# Altium footprint library LED_SMD.PcbLib: 82 footprints (part 3 of 6)
Each footprint in its own frame and in the unit in brackets; x right, y up, seen from the top. Pads: shape width x height; smd on the part's side, far side on the other; paste and mask are expansions set on the pad; w line width, h text height; cw(c..) or ccw(c..) is an arc to the next point about the centre after c.
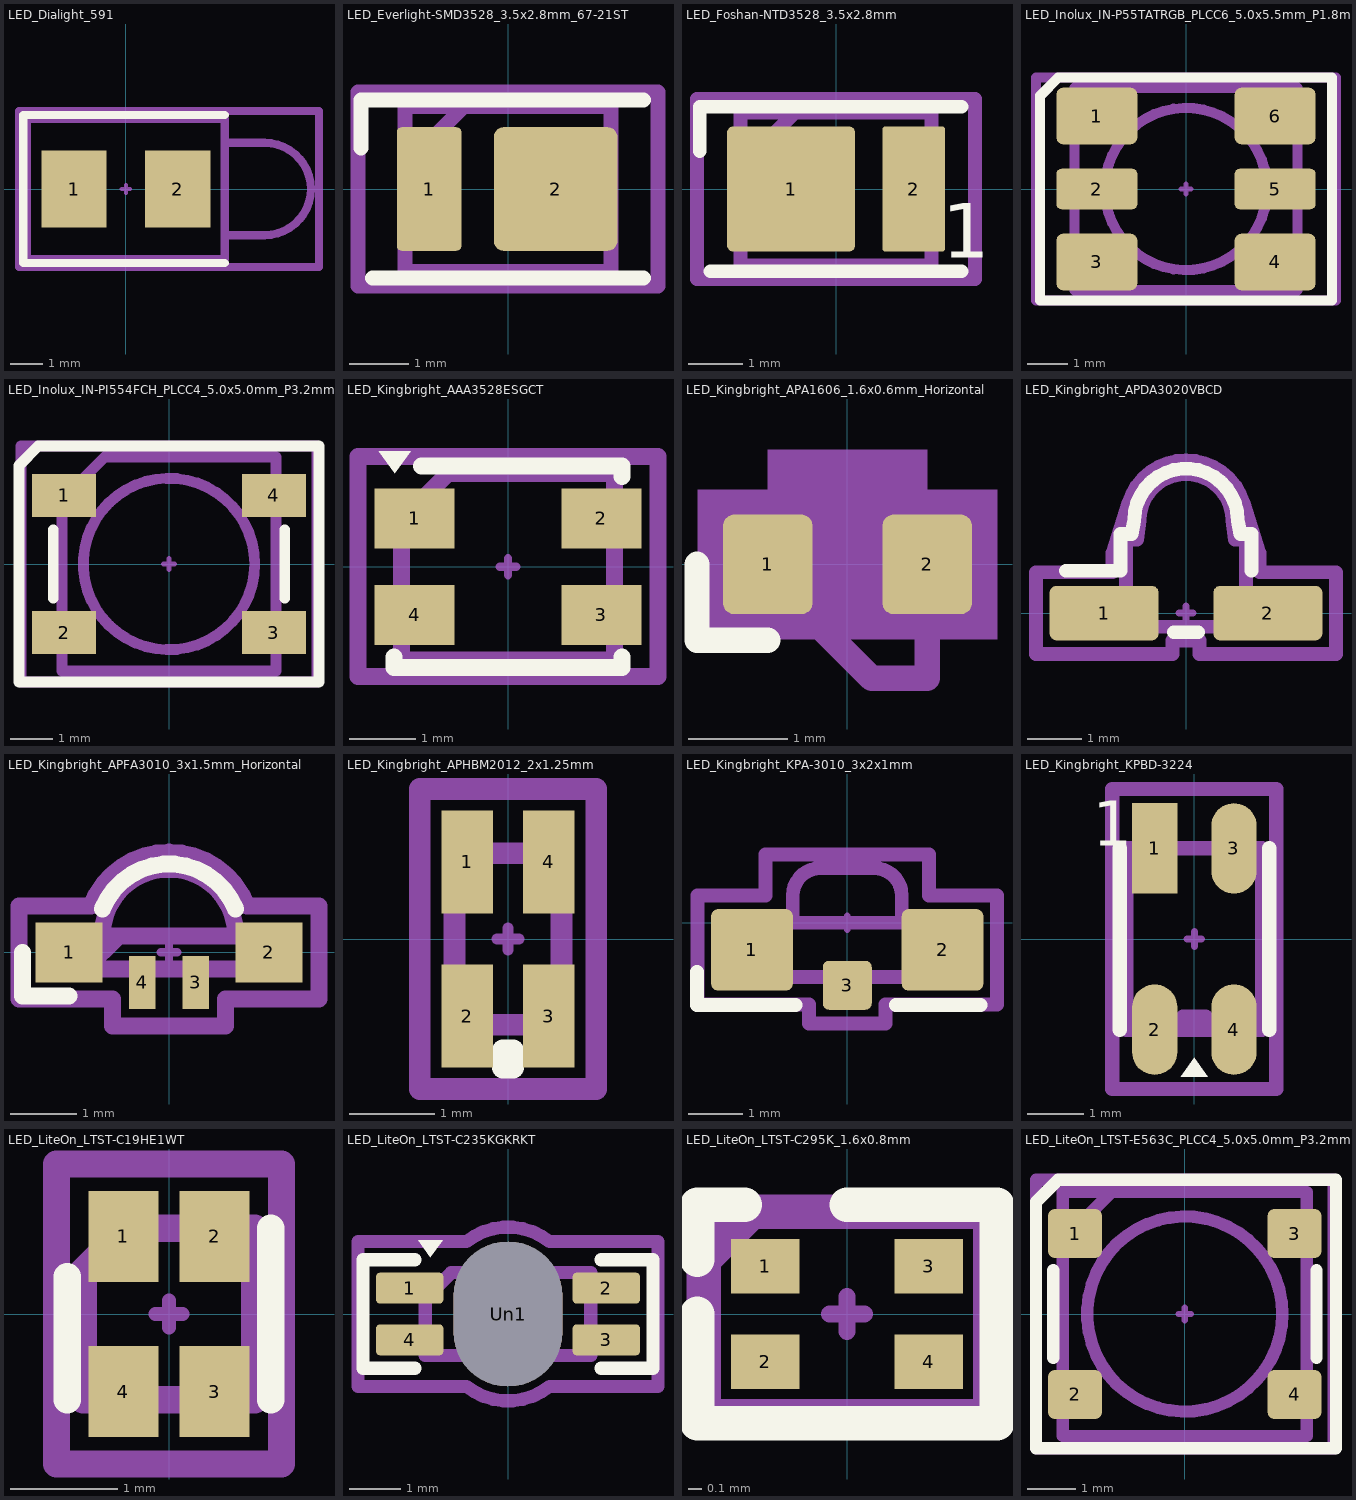
[diagram p2: the footprints below, top view; thin cyan lines are the x and y axes]

## LED_Dialight_591 [mm] "LED_Dialight_591"
pads (2):
  rect 2.01x2.39 smd: 1(-1.6,0) 2(1.6,0)
F.SilkS:
  lines w0.254: 3.05,-2.28 -3.17,-2.28 -3.17,2.28 3.05,2.28
Top Component Center:
  lines w0.127: -0.127,0 0.127,0 ; 0,-0.127 0,0.127
Top Assembly:
  lines w0.254: 3.05,-1.425 4.285,-1.425 ccw(c4.285,0) 4.285,1.425 3.05,1.425 ; -3.05,-2.16 3.05,-2.16 3.05,2.16 -3.05,2.16 -3.05,-2.16
Top Courtyard:
  lines w0.254: -3.3,-2.41 5.96,-2.41 5.96,2.41 -3.3,2.41 -3.3,-2.41
Top Designator:
  text ".Designator" at -3.38,-0.339 h1.5

## LED_Everlight-SMD3528_3.5x2.8mm_67-21ST [mm] "LED_Everlight-SMD3528_3.5x2.8mm_67-21ST"
pads (2):
  rrect15% 1.1x2.1 smd: 1(-1.34,0)
  rrect15% 2.1x2.1 smd: 2(0.81,0)
F.SilkS:
  lines w0.254: -2.5,0.7 -2.5,1.51 2.3,1.51 ; -2.3,-1.51 2.3,-1.51
Top Component Center:
  lines w0.127: -0.127,0 0.127,0 ; 0,-0.127 0,0.127
Top Assembly:
  lines w0.254: -1.75,0.4 -0.75,1.4 ; -1.75,-1.4 -1.75,1.4 1.75,1.4 1.75,-1.4 -1.75,-1.4
Top Courtyard:
  lines w0.254: -2.55,-1.65 -2.55,1.65 2.55,1.65 2.55,-1.65 -2.55,-1.65
Top Designator:
  text ".Designator" at -2.253,-0.226 h1

## LED_Foshan-NTD3528_3.5x2.8mm [mm] "LED_Foshan-NTD3528_3.5x2.8mm"
pads (2):
  rrect10% 2.35x2.3 smd: 1(-0.825,0)
  rrect10% 1.15x2.3 smd: 2(1.425,0)
F.SilkS:
  lines w0.254: -2.5,0.7 -2.5,1.51 2.3,1.51 ; -2.3,-1.51 2.3,-1.51
  text "1" at 1.953,-1.264 h1
Top Component Center:
  lines w0.127: -0.127,0 0.127,0 ; 0,-0.127 0,0.127
Top Assembly:
  lines w0.254: -1.75,0.4 -0.75,1.4 ; -1.75,-1.4 -1.75,1.4 1.75,1.4 1.75,-1.4 -1.75,-1.4
Top Courtyard:
  lines w0.254: -2.55,-1.65 -2.55,1.65 2.55,1.65 2.55,-1.65 -2.55,-1.65
Top Designator:
  text ".Designator" at -2.253,-0.226 h1

## LED_Inolux_IN-P55TATRGB_PLCC6_5.0x5.5mm_P1.8mm [mm] "LED_Inolux_IN-P55TATRGB_PLCC6_5.0x5.5mm_P1.8mm"
pads (6):
  rrect25% 2x1.4 smd: 1(-2.2,1.8) 3(-2.2,-1.8) 4(2.2,-1.8) 6(2.2,1.8)
  rrect25% 2x1 smd: 2(-2.2,0) 5(2.2,0)
F.SilkS:
  lines w0.254: -3.6,-2.75 -3.6,2.3 -3.15,2.75 3.6,2.75 3.6,-2.75 -3.6,-2.75
Top Component Center:
  lines w0.127: -0.127,0 0.127,0 ; 0,-0.127 0,0.127
Top Assembly:
  circle w0.254: c0,0 r2
  lines w0.254: -2.75,1.5 -1.75,2.5 ; -2.75,-2.5 -2.75,2.5 2.75,2.5 2.75,-2.5 -2.75,-2.5
Top Courtyard:
  lines w0.254: -3.7,-2.75 -3.7,2.75 3.7,2.75 3.7,-2.75 -3.7,-2.75
Top Designator:
  text ".Designator" at -3.432,-0.345 h1.52

## LED_Inolux_IN-PI554FCH_PLCC4_5.0x5.0mm_P3.2mm [mm] "LED_Inolux_IN-PI554FCH_PLCC4_5.0x5.0mm_P3.2mm"
pads (4):
  rect 1.5x1 smd: 1(-2.45,1.6) 2(-2.45,-1.6) 3(2.45,-1.6) 4(2.45,1.6)
F.SilkS:
  lines w0.254: -2.7,-0.8 -2.7,0.8 ; 2.7,-0.8 2.7,0.8 ; -3.5,-2.75 3.5,-2.75 3.5,2.75 -3.05,2.75 -3.5,2.3 -3.5,-2.75
Top Component Center:
  lines w0.127: -0.127,0 0.127,0 ; 0,-0.127 0,0.127
Top Assembly:
  circle w0.254: c0,0 r2
  lines w0.254: -2.5,-2.5 2.5,-2.5 2.5,2.5 -1.5,2.5 -2.5,1.5 -2.5,-2.5
Top Courtyard:
  lines w0.254: -3.45,-2.75 3.45,-2.75 3.45,2.75 -3.45,2.75 -3.45,-2.75
Top Designator:
  text ".Designator" at -3.38,-0.339 h1.5
3D body "LED_Inolux_IN-PI554FCH_PLCC4_5.0x5.0mm_P3.2mm.step": height 1.7, standoff 0, extent -2.7,-2.5 2.7,2.5

## LED_Kingbright_AAA3528ESGCT [mm] "LED_Kingbright_AAA3528ESGCT"
pads (4):
  rect 1.2x0.9 smd: 1(-1.4,0.725) 2(1.4,0.725) 3(1.4,-0.725) 4(-1.4,-0.725)
F.SilkS:
  region: -1.7,1.4 -1.94,1.73 -1.46,1.73
  lines w0.254: -1.71,-1.355 -1.71,-1.51 1.71,-1.51 1.71,-1.355 ; -1.3,1.51 1.71,1.51 1.71,1.355
Top Component Center:
  lines w0.127: -0.127,0 0.127,0 ; 0,-0.127 0,0.127
Top Assembly:
  lines w0.254: -1.6,-1.4 1.6,-1.4 1.6,1.4 -0.9,1.4 -1.6,0.7 -1.6,-1.4
Top Courtyard:
  lines w0.254: -2.25,-1.65 2.25,-1.65 2.25,1.65 -2.25,1.65 -2.25,-1.65
Top Designator:
  text ".Designator" at -2.253,-0.226 h1

## LED_Kingbright_APA1606_1.6x0.6mm_Horizontal [mm] "LED_Kingbright_APA1606_1.6x0.6mm_Horizontal"
pads (2):
  rrect25% 0.9x1 smd: 1(-0.8,0) 2(0.8,0)
F.SilkS:
  lines w0.254: -1.51,0 -1.51,-0.76 -0.8,-0.76
Top Component Center:
  lines w0.127: -0.127,0 0.127,0 ; 0,-0.127 0,0.127
Top Assembly:
  lines w0.254: -0.6,0.3 -0.55,0.9 0.55,0.9 0.6,0.3 ; -0.8,-0.1 0.243,-1.143 0.8,-1.143 0.8,0.3 -0.8,0.3 -0.8,-0.1
Top Courtyard:
  region: 0.8,0.75 1.5,0.75 1.5,-0.75 -1.5,-0.75 -1.5,0.75 -0.8,0.75 -0.8,1.15 0.8,1.15
Top Designator:
  text ".Designator" at -1.127,-0.113 h0.5
3D body "LED_Kingbright_APA1606_1.6x0.6mm_Horizontal.step": height 0.6, standoff 0, extent -0.8,-0.3 0.8,0.9
3D body "LED_Kingbright_APA1606_1.6x0.6mm_Horizontal.step": height 0.6, standoff 0, extent -0.8,-0.3 0.8,0.9

## LED_Kingbright_APDA3020VBCD [mm] "LED_Kingbright_APDA3020VBCD"
pads (2):
  rrect25% 2x1 smd: 1(-1.5,0) 2(1.5,0)
F.SilkS:
  lines w0.254: -2.2,0.775 -1.2,0.775 -1.2,1.45 -1,1.45 -0.95,1.7 cw(c0,1.7) 0.95,1.7 1,1.45 1.2,1.45 1.2,0.775 ; -0.225,-0.35 0.225,-0.35
Top Component Center:
  lines w0.127: -0.127,0 0.127,0 ; 0,-0.127 0,0.127
Top Assembly:
  lines w0.254: -1.425,-0.25 -1.425,0.25 ; -1.325,-0.25 -1.325,0.25 ; -1.275,-0.25 -1.275,0.25 ; -1.5,-0.25 1.5,-0.25 1.5,0.25 1.1,0.25 1.1,1.35 0.9,1.35 0.85,1.7 ccw(c0,1.7) -0.85,1.7 -0.9,1.35 -1.1,1.35 -1.1,0.25 -1.5,0.25 -1.5,-0.25
Top Courtyard:
  lines w0.254: -2.75,-0.75 -0.25,-0.75 -0.25,-0.5 0.25,-0.5 0.25,-0.75 2.75,-0.75 2.75,0.75 1.35,0.75 1.35,1.1 1.05,2.03 ccw(c0,1.699) -1.05,2.03 -1.35,1.1 -1.35,0.75 -2.75,0.75 -2.75,-0.75
Top Designator:
  text ".Designator" at -2.253,-0.226 h1

## LED_Kingbright_APFA3010_3x1.5mm_Horizontal [mm] "LED_Kingbright_APDA3020VBCD"
pads (4):
  rect 1x0.9 smd: 1(-1.5,0) 2(1.5,0)
  rect 0.4x0.8 smd: 3(0.4,-0.45) 4(-0.4,-0.45)
F.SilkS:
  lines w0.254: -2.2,0 -2.2,-0.65 -1.5,-0.65 ; -1,0.65 cw(c0,0.25) 1,0.65
Top Component Center:
  lines w0.127: -0.127,0 0.127,0 ; 0,-0.127 0,0.127
Top Assembly:
  lines w0.254: -1.25,-0.25 -0.75,0.25 ; -1,0.25 cw(c0,0.25) 1,0.25 ; -1.5,-0.25 1.5,-0.25 1.5,0.25 -1.5,0.25 -1.5,-0.25
Top Courtyard:
  lines w0.254: -2.25,-0.7 -0.85,-0.7 -0.85,-1.1 0.85,-1.1 0.85,-0.7 2.25,-0.7 2.25,0.7 1.17,0.7 ccw(c0,0.25) -1.17,0.7 -2.25,0.7 -2.25,-0.7
Top Designator:
  text ".Designator" at -2.253,-0.226 h1

## LED_Kingbright_APHBM2012_2x1.25mm [mm]
pads (4):
  rect 0.6x1.2 smd: 1(-0.475,0.9) 2(-0.475,-0.9) 3(0.475,-0.9) 4(0.475,0.9)
F.SilkS:
  lines w0.254: -0.06,-1.5 -0.06,-1.3 0.06,-1.3 0.06,-1.5 -0.06,-1.5
Top Component Center:
  lines w0.127: -0.127,0 0.127,0 ; 0,-0.127 0,0.127
Top Assembly:
  lines w0.254: -0.625,-1 -0.625,0.7 -0.325,1 0.625,1 0.625,-1 -0.625,-1
Top Courtyard:
  lines w0.254: -1.03,-1.75 -1.03,1.75 1.03,1.75 1.03,-1.75 -1.03,-1.75
Top Designator:
  text ".Designator" at 0.17,-1.69 h0.75

## LED_Kingbright_KPA-3010_3x2x1mm [mm] "LED_Kingbright_KPA-3010_3x2x1mm"
pads (3):
  rrect17% 1.5x1.5 smd: 1(-1.75,-0.5) 2(1.75,-0.5)
  rrect25% 0.9x0.9 smd: 3(0,-1.15)
F.SilkS:
  lines w0.254: -2.76,-0.9 -2.76,-1.51 -0.95,-1.51 ; 0.895,-1.51 2.45,-1.51
Top Component Center:
  lines w0.127: -0.127,0 0.127,0 ; 0,-0.127 0,0.127
Top Assembly:
  lines w0.254: -1.2,-1 -1.2,0 ; -1,0 -1,0.5 cw(c-0.5,0.5) -0.5,1 0.5,1 cw(c0.5,0.5) 1,0.5 1,0 ; -1.5,-1 1.5,-1 1.5,0 -1.5,0 -1.5,-1
Top Courtyard:
  lines w0.254: -2.75,-1.5 -0.7,-1.5 -0.7,-1.85 0.7,-1.85 0.7,-1.5 2.75,-1.5 2.75,0.5 1.5,0.5 1.5,1.25 -1.5,1.25 -1.5,0.5 -2.75,0.5 -2.75,-1.5
Top Designator:
  text ".Designator" at -2.253,-0.226 h1

## LED_Kingbright_KPBD-3224 [mm] "LED_Kingbright_KPBD-3224"
pads (4):
  rect 0.8x1.6 smd: 1(-0.7,1.6)
  rrect100% 0.8x1.6 smd: 2(-0.7,-1.6) 3(0.7,1.6) 4(0.7,-1.6)
F.SilkS:
  region: 0.24,-2.43 -0.24,-2.43 0,-2.1
  lines w0.254: -1.32,-1.6 -1.32,1.6 ; 1.32,-1.6 1.32,1.6
  text "1" at -1.795,1.65 h0.8
Top Component Center:
  lines w0.127: -0.127,0 0.127,0 ; 0,-0.127 0,0.127
Top Assembly:
  lines w0.254: -1.2,-1.6 1.2,-1.6 1.2,1.6 -1.2,1.6 -1.2,-1.6 ; -0.2,-1.6 0.2,-1.6 0.2,-1.375 -0.2,-1.375 -0.2,-1.6
Top Courtyard:
  lines w0.254: -1.45,-2.65 1.45,-2.65 1.45,2.65 -1.45,2.65 -1.45,-2.65
Top Designator:
  text ".Designator" at 0.26,-2.253 h1

## LED_LiteOn_LTST-C19HE1WT [mm] "LED_LiteOn_LTST-C19HE1WT"
pads (4):
  rect 0.65x0.85 smd: 1(-0.425,0.725) 2(0.425,0.725) 3(0.425,-0.725) 4(-0.425,-0.725)
F.SilkS:
  lines w0.254: -0.95,-0.8 -0.95,0.35 ; 0.95,-0.8 0.95,0.8
Top Component Center:
  lines w0.127: -0.127,0 0.127,0 ; 0,-0.127 0,0.127
Top Assembly:
  lines w0.254: -0.8,-0.8 -0.8,0.4 -0.4,0.8 0.8,0.8 0.8,-0.8 -0.8,-0.8
Top Courtyard:
  lines w0.254: -1.05,-1.4 -1.05,1.4 1.05,1.4 1.05,-1.4 -1.05,-1.4
Top Designator:
  text ".Designator" at 0.113,-1.127 h0.5

## LED_LiteOn_LTST-C235KGKRKT [mm] "LED_LiteOn_LTST-C235KGKRKT"
pads (5):
  rrect25% 1.3x0.6 smd: 1(-1.9,0.5) 2(1.9,0.5) 3(1.9,-0.5) 4(-1.9,-0.5)
  rrect100% 2.1x2.8 hole 2.8 slot 2.1 at 0 deg: Un1(0,0)
F.SilkS:
  region: -1.5,1.1 -1.74,1.43 -1.26,1.43
  lines w0.254: -1.8,-1.05 -2.8,-1.05 -2.8,1.05 -1.8,1.05 ; 1.8,-1.05 2.8,-1.05 2.8,1.05 1.8,1.05
Top Component Center:
  lines w0.127: -0.127,0 0.127,0 ; 0,-0.127 0,0.127
Top Assembly:
  lines w0.254: -1.6,-0.8 -1.6,0.3 -1.1,0.8 1.6,0.8 1.6,-0.8 -1.6,-0.8 ; -0.8,-0.75 0.8,-0.75 0.8,0.75 -0.8,0.75 -0.8,-0.75
Top Courtyard:
  lines w0.254: -2.9,-1.4 -2.9,1.4 -0.8,1.4 cw(c0,0.4) 0.8,1.4 2.9,1.4 2.9,-1.4 0.8,-1.4 cw(c0,-0.4) -0.8,-1.4 -2.9,-1.4
Top Designator:
  text ".Designator" at -2.253,-0.226 h1

## LED_LiteOn_LTST-C295K_1.6x0.8mm [mm] "LED_LiteOn_LTST-C295K_1.6x0.8mm"
pads (4):
  rect 0.5x0.4 smd: 1(-0.6,0.35) 2(-0.6,-0.35) 3(0.6,0.35) 4(0.6,-0.35)
F.SilkS:
  lines w0.254: -1.1,0 -1.1,-0.8 1.1,-0.8 1.1,0.8 0,0.8 ; -1.1,0.4 -1.1,0.8 -0.75,0.8
Top Component Center:
  lines w0.127: -0.127,0 0.127,0 ; 0,-0.127 0,0.127
Top Assembly:
  lines w0.254: -1.05,-0.75 -1.05,0.4 -0.7,0.75 1.05,0.75 1.05,-0.75 -1.05,-0.75
Top Courtyard:
  lines w0.254: -1.05,-0.75 -1.05,0.75 1.05,0.75 1.05,-0.75 -1.05,-0.75
Top Designator:
  text ".Designator" at -1.69,-0.17 h0.75

## LED_LiteOn_LTST-E563C_PLCC4_5.0x5.0mm_P3.2mm [mm] "LED_LiteOn_LTST-E563C_PLCC4_5.0x5.0mm_P3.2mm"
pads (4):
  rrect25% 1.1x1 smd: 1(-2.25,1.65) 2(-2.25,-1.65) 3(2.25,1.65) 4(2.25,-1.65)
F.SilkS:
  lines w0.254: -2.7,-0.9 -2.7,0.9 ; 2.7,-0.9 2.7,0.9 ; -3.05,-2.75 -3.05,2.3 -2.6,2.75 3.1,2.75 3.1,-2.75 -3.05,-2.75
Top Component Center:
  lines w0.127: -0.127,0 0.127,0 ; 0,-0.127 0,0.127
Top Assembly:
  circle w0.254: c0,0 r2
  lines w0.254: -2.5,1.5 -1.5,2.5 ; -2.5,-2.5 -2.5,2.5 2.5,2.5 2.5,-2.5 -2.5,-2.5
Top Courtyard:
  lines w0.254: -3.05,-2.75 -3.05,2.75 3.05,2.75 3.05,-2.75 -3.05,-2.75
Top Designator:
  text ".Designator" at -3.38,-0.339 h1.5